# Altium footprint library Main.PcbLib: 15 footprints
Each footprint in its own frame and in the unit in brackets; x right, y up, seen from the top. Pads: shape width x height; smd on the part's side, far side on the other; paste and mask are expansions set on the pad; w line width, h text height; cw(c..) or ccw(c..) is an arc to the next point about the centre after c.
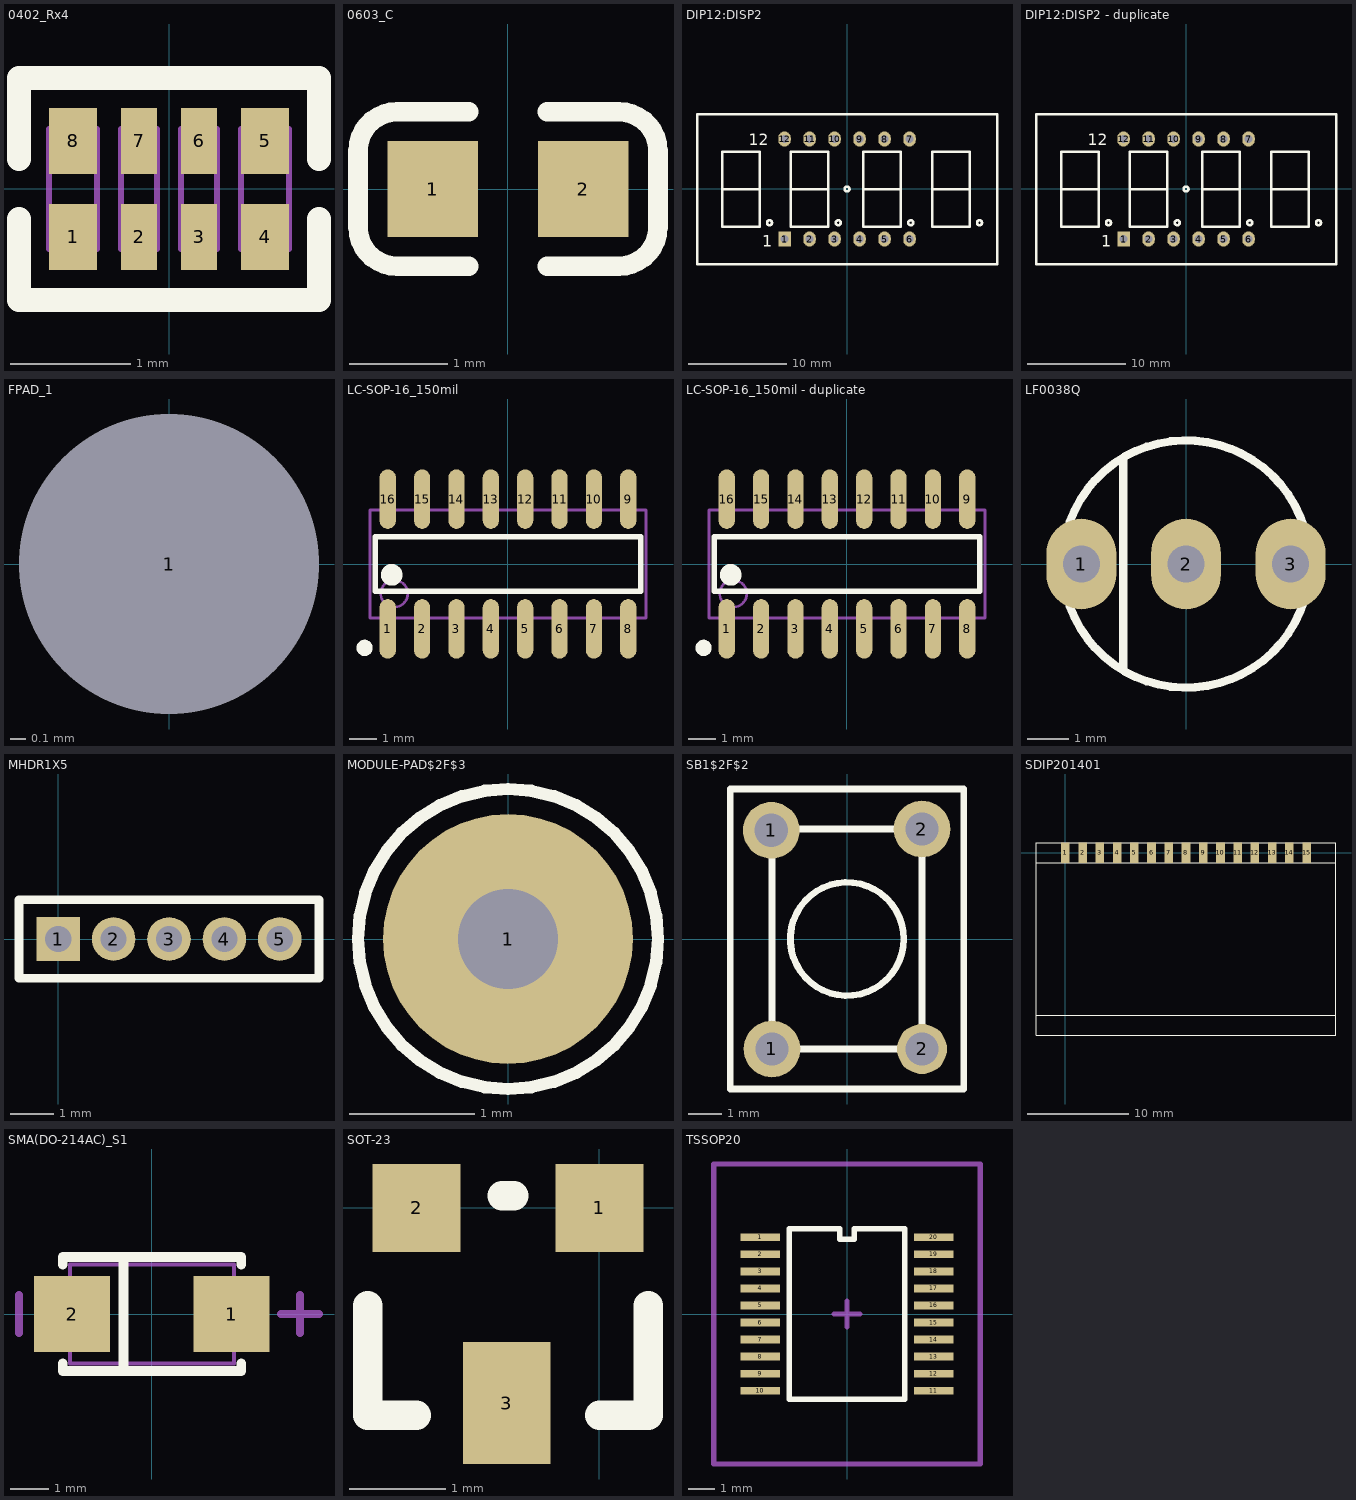
[diagram p0: the footprints below, top view; thin cyan lines are the x and y axes]

## 0402_Rx4 [mm]
height 19.1
pads (8):
  rect 0.4x0.55 smd mask+0.051: 1(-0.8,-0.4) 4(0.8,-0.4) 5(0.8,0.4) 8(-0.8,0.4)
  rect 0.3x0.55 smd mask+0.051: 2(-0.25,-0.4) 3(0.25,-0.4) 6(0.25,0.4) 7(-0.25,0.4)
Top Overlay:
  lines w0.2: -1.25,-0.25 -1.25,-0.925 1.25,-0.925 1.25,-0.25 ; -1.25,0.25 -1.25,0.925 1.25,0.925 1.25,0.25
Mechanical 13:
  lines w0.05: -1,-0.5 -0.6,-0.5 ; -1,-0.5 -1,0.5 -0.6,0.5 -0.6,-0.5 ; -1,-0.5 -0.6,-0.5 ; -0.4,-0.5 -0.1,-0.5 -0.1,0.5 -0.4,0.5 -0.4,-0.5 ; 0.1,-0.5 0.4,-0.5 0.4,0.5 0.1,0.5 0.1,-0.5 ; 0.6,-0.5 1,-0.5 1,0.5 0.6,0.5 0.6,-0.5
3D body "User Library-YC124-1.step": height 0.45, standoff 0, extent -1,-0.5 1,0.5

## 0603_C [mm]
pads (2):
  rect 0.93x0.98 smd: 1(-0.77,0) 2(0.77,0)
Top Overlay:
  lines w0.2: -0.4,-0.79 -1.135,-0.79 cw(c-1.135,-0.39) -1.535,-0.39 -1.535,0.39 cw(c-1.135,0.39) -1.135,0.79 -0.4,0.79 ; 0.4,-0.79 1.135,-0.79 ccw(c1.135,-0.39) 1.535,-0.39 1.535,0.39 ccw(c1.135,0.39) 1.135,0.79 0.4,0.79
3D body "User Library-0603 SMD Capacitor.STEP": height 0.3, standoff 0, extent -0.8,-0.4 0.8,0.4

## DIP12:DISP2 [mil]
height 80
pads (12):
  rect 50x60 hole 32: 1(-250,-200)
  oval 50x60 hole 32: 2(-150,-200) 3(-50,-200) 4(50,-200) 5(150,-200) 6(250,-200) 7(250,200) 8(150,200) 9(50,200) 10(-50,200) 11(-150,200) 12(-250,200)
Top Overlay:
  circle w10: c0,0 r10
  circle w10: c-310,-135 r10
  circle w10: c-35,-135 r10
  circle w10: c255,-135 r10
  circle w10: c530,-135 r10
  lines w10: -500,0 -350,0 ; -225,0 -75,0 ; 65,0 215,0 ; 340,0 490,0 ; -600,-300 -600,300 600,300 600,-300 -600,-300 ; -500,-150 -500,150 -350,150 -350,-150 -500,-150 ; -225,-150 -225,150 -75,150 -75,-150 -225,-150 ; 65,-150 65,150 215,150 215,-150 65,-150 ; 340,-150 340,150 490,150 490,-150 340,-150
  text "12" at -393.7,175.59 h45
  text "1" at -340,-230 h47.24

## DIP12:DISP2 - duplicate [mil]
height 80
pads (12):
  rect 50x60 hole 32: 1(-250,-200)
  oval 50x60 hole 32: 2(-150,-200) 3(-50,-200) 4(50,-200) 5(150,-200) 6(250,-200) 7(250,200) 8(150,200) 9(50,200) 10(-50,200) 11(-150,200) 12(-250,200)
Top Overlay:
  circle w10: c530,-135 r10
  circle w10: c255,-135 r10
  circle w10: c-35,-135 r10
  circle w10: c-310,-135 r10
  circle w10: c0,0 r10
  lines w10: -500,0 -350,0 ; -225,0 -75,0 ; 65,0 215,0 ; 340,0 490,0 ; -600,-300 600,-300 600,300 -600,300 -600,-300 ; -500,-150 -350,-150 -350,150 -500,150 -500,-150 ; -225,-150 -75,-150 -75,150 -225,150 -225,-150 ; 65,-150 215,-150 215,150 65,150 65,-150 ; 340,-150 490,-150 490,150 340,150 340,-150
  text "1" at -340,-230 h47.24
  text "12" at -393.7,175.59 h45

## FPAD_1 [mil]
height 751.97
pads (1):
  round 60 hole 78.74: 1(0,0)

## LC-SOP-16_150mil [mm]
pads (16):
  oval 0.6x2.2 smd: 1(-4.445,-2.4) 2(-3.175,-2.4) 3(-1.905,-2.4) 4(-0.635,-2.4) 5(0.635,-2.4) 6(1.905,-2.4) 7(3.175,-2.4) 8(4.445,-2.4) 9(4.445,2.4) 10(3.175,2.4) 11(1.905,2.4) 12(0.635,2.4) 13(-0.635,2.4) 14(-1.905,2.4) 15(-3.175,2.4) 16(-4.445,2.4)
Top Overlay:
  circle w0.4: c-4.3,-0.4 r0.2
  circle w0.3: c-5.3,-3.1 r0.15
  lines w0.2: -4.9,-1 4.9,-1 4.9,1 -4.9,1 -4.9,-1
Mechanical 13:
  circle w0.1: c-4.205,-1.095 r0.5
  lines w0.1: -5.105,-1.995 5.105,-1.995 5.105,1.995 -5.105,1.995 -5.105,-1.995

## LC-SOP-16_150mil - duplicate [mm]
pads (16):
  oval 0.6x2.2 smd: 1(-4.445,-2.4) 2(-3.175,-2.4) 3(-1.905,-2.4) 4(-0.635,-2.4) 5(0.635,-2.4) 6(1.905,-2.4) 7(3.175,-2.4) 8(4.445,-2.4) 9(4.445,2.4) 10(3.175,2.4) 11(1.905,2.4) 12(0.635,2.4) 13(-0.635,2.4) 14(-1.905,2.4) 15(-3.175,2.4) 16(-4.445,2.4)
Top Overlay:
  circle w0.3: c-5.3,-3.1 r0.15
  circle w0.4: c-4.3,-0.4 r0.2
  lines w0.2: -4.9,-1 -4.9,1 4.9,1 4.9,-1 -4.9,-1
Mechanical 13:
  circle w0.1: c-4.205,-1.095 r0.5
  lines w0.1: -5.105,-1.995 -5.105,1.995 5.105,1.995 5.105,-1.995 -5.105,-1.995

## LF0038Q [mm]
height 19.1
pads (3):
  oval 1.7x2.2 hole 0.9: 1(-2.54,0) 2(0,0) 3(2.54,0)
Top Overlay:
  circle w0.2: c0,0 r3
  lines w0.2: -1.524,-2.54 -1.524,2.54

## MHDR1X5 [mm] "Connector; Header; 5 Position"
height 19.1
pads (5):
  rect 1x1 hole 0.6: 1(0,0)
  round 1 hole 0.6: 2(1.27,0) 3(2.54,0) 4(3.81,0) 5(5.08,0)
Top Overlay:
  lines w0.2: -0.9,-0.9 5.98,-0.9 5.98,0.9 -0.9,0.9 -0.9,-0.9

## MODULE-PAD$2F$3 [mm]
height 19.1
pads (1):
  round 2 hole 0.8: 1(0,0)
Top Overlay:
  circle w0.1: c0,0 r1.2

## SB1$2F$2 [mm]
height 19.1
pads (4):
  round 1.7 hole 1: 1(-2.27,3.26) 1(-2.25,-3.3) 2(2.25,3.3)
  round 1.5 hole 1: 2(2.25,-3.3)
Top Overlay:
  circle w0.2: c0,0 r1.7
  lines w0.2: -3.5,-4.5 3.5,-4.5 3.5,4.5 -3.5,4.5 -3.5,-4.5 ; -2.25,-3.3 2.25,-3.3 2.25,3.3 -2.25,3.3 -2.25,-3.3

## SDIP201401 [mm]
height 19.1
pads (15):
  rect 0.85x2 smd: 1(0,0) 2(1.7,0) 3(3.4,0) 4(5.1,0) 5(6.8,0) 6(8.5,0) 7(10.2,0) 8(11.9,0) 9(13.6,0) 10(15.3,0) 11(17,0) 12(18.7,0) 13(20.4,0) 14(22.1,0) 15(23.8,0)
Top Overlay:
  lines w0.1: -2.9,-16 26.7,-16 ; -2.9,-1 26.7,-1 ; -2.9,-18 26.7,-18 26.7,1 -2.9,1 -2.9,-18

## SMA(DO-214AC)_S1 [mm]
height 19.1
pads (2):
  rect 2x2 smd: 1(2.1,0) 2(-2.1,0)
Top Overlay:
  lines w0.254: -2.35,-1.3 -2.35,-1.5 2.35,-1.5 2.35,-1.3 ; -2.35,1.3 -2.35,1.5 2.35,1.5 2.35,1.3 ; -0.75,-1.5 -0.75,1.5
Mechanical 13:
  lines w0.1: -2.16,-1.3 2.16,-1.3 2.16,1.3 -2.16,1.3 -2.16,-1.3
Mechanical 15:
  lines w0.203: -3.5,-0.5 -3.5,0.5 ; 3.4,0 4.4,0 ; 3.9,-0.5 3.9,0.5

## SOT-23 [mil]
height 751.97
pads (3):
  rect 36x36 smd: 1(0,0) 2(-75,0)
  rect 36x50 smd: 3(-38,-80)
Top Overlay:
  lines w12: -95,-40 -95,-85 -75,-85 ; -40,5 -35,5 ; 0,-85 20,-85 20,-40
3D body "SOT-23.step": height 41.65, standoff -1.65, extent -94.05,-89.21 24.06,9.21

## TSSOP20 [mm]
height 19.1
pads (20):
  rect 1.5x0.3 smd: 1(-3.3,2.925) 2(-3.3,2.275) 3(-3.3,1.625) 4(-3.3,0.975) 5(-3.3,0.325) 6(-3.3,-0.325) 7(-3.3,-0.975) 8(-3.3,-1.625) 9(-3.3,-2.275) 10(-3.3,-2.925) 11(3.3,-2.925) 12(3.3,-2.275) 13(3.3,-1.625) 14(3.3,-0.975) 15(3.3,-0.325) 16(3.3,0.325) 17(3.3,0.975) 18(3.3,1.625) 19(3.3,2.275) 20(3.3,2.925)
Top Overlay:
  lines w0.2: -2.2,-3.25 -2.2,3.25 -0.275,3.25 -0.275,2.844 0.275,2.844 0.275,3.25 2.2,3.25 2.2,-3.25 -2.2,-3.25
Mechanical 16:
  lines w0.2: -0.5,0 0,0 ; 0,-0.5 0,0 ; 0,0.5 0,0 ; 0.5,0 0,0 ; -5.08,-5.715 -5.08,5.715 5.08,5.715 5.08,-5.715 -5.08,-5.715